# Altium footprint library SpriteTCXO.PCBLIB: 1 footprints
Each footprint in its own frame and in the unit in brackets; x right, y up, seen from the top. Pads: shape width x height; smd on the part's side, far side on the other; paste and mask are expansions set on the pad; w line width, h text height; cw(c..) or ccw(c..) is an arc to the next point about the centre after c.
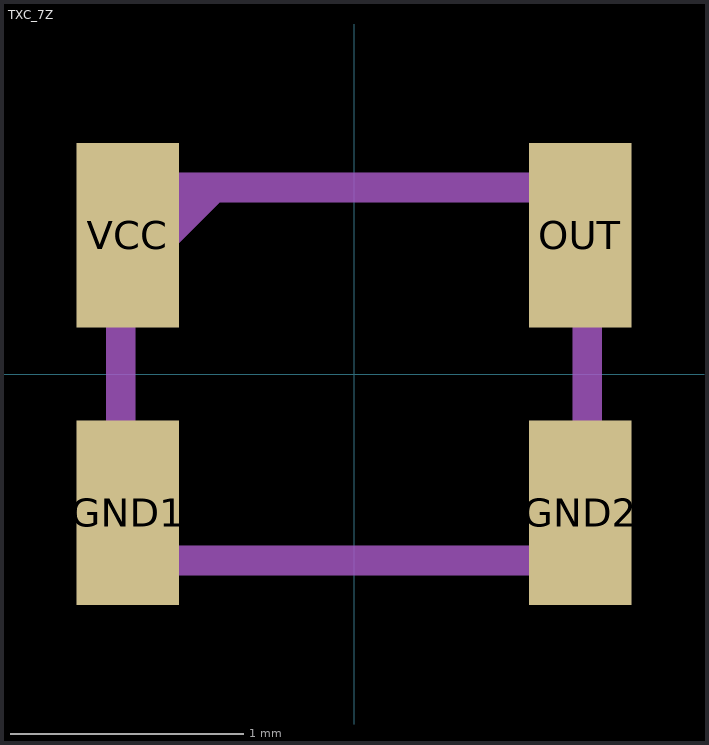
[diagram p0: the footprint, top view; thin cyan lines are the x and y axes]

## TXC_7Z [mm]
pads (4):
  rect 0.44x0.79 smd: GND1(-0.97,-0.595) GND2(0.97,-0.595) OUT(0.97,0.595) VCC(-0.97,0.595)
Mechanical 2:
  lines w0.127: -1,0.4 -1,-0.8 1,-0.8 1,0.8 -0.6,0.8 ; -1,0.4 -1,0.8 -0.6,0.8 ; -1,0.4 -0.6,0.8